# Altium footprint library YaoPCB.PCBLIB: 415 footprints (part 1 of 26)
Each footprint in its own frame and in the unit in brackets; x right, y up, seen from the top. Pads: shape width x height; smd on the part's side, far side on the other; paste and mask are expansions set on the pad; w line width, h text height; cw(c..) or ccw(c..) is an arc to the next point about the centre after c.
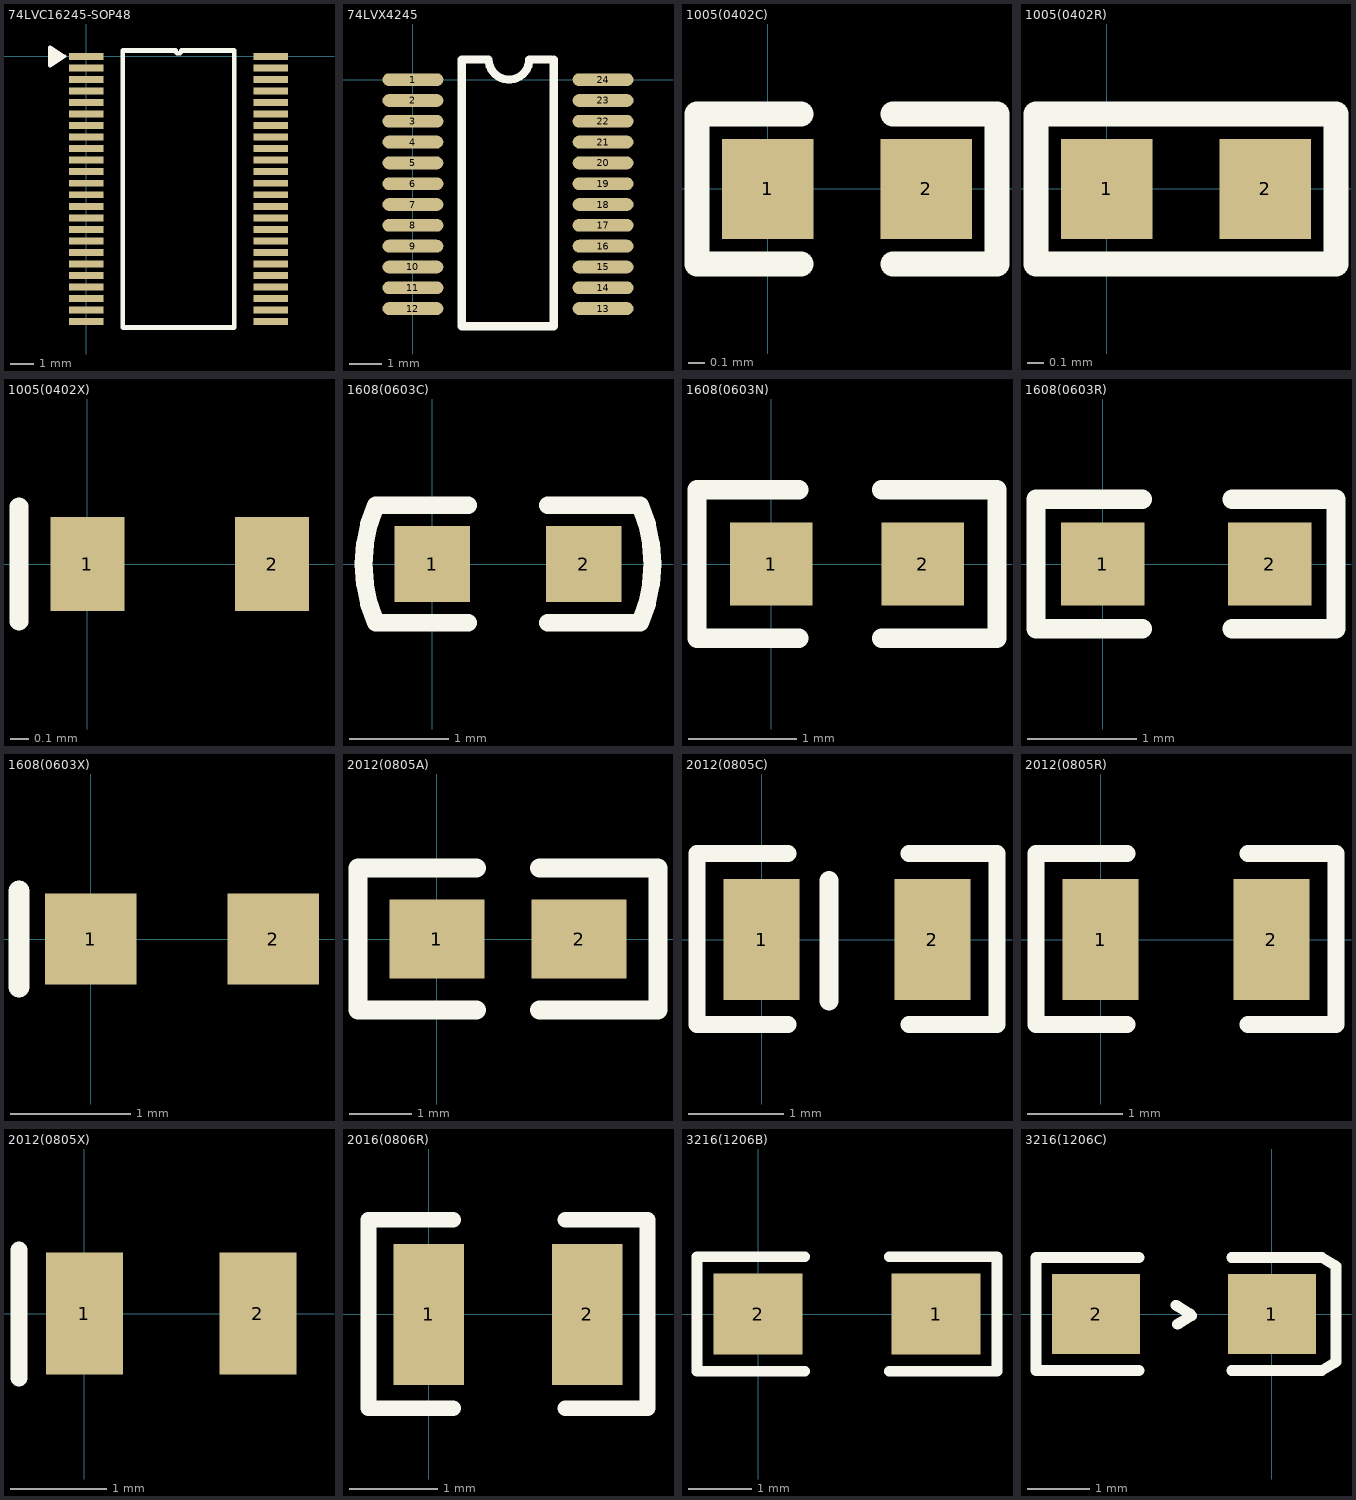
[diagram p0: the footprints below, top view; thin cyan lines are the x and y axes]

## 74LVC16245-SOP48 [mm]
pads (48):
  rect 1.5x0.3 smd: 1(0,0) 2(0,-0.5) 3(0,-1) 4(0,-1.5) 5(0,-2) 6(0,-2.5) 7(0,-3) 8(0,-3.5) 9(0,-4) 10(0,-4.5) 11(0,-5) 12(0,-5.5) 13(0,-6) 14(0,-6.5) 15(0,-7) 16(0,-7.5) 17(0,-8) 18(0,-8.5) 19(0,-9) 20(0,-9.5) 21(0,-10) 22(0,-10.5) 23(0,-11) 24(0,-11.5) 25(8,-11.5) 26(8,-11) 27(8,-10.5) 28(8,-10) 29(8,-9.5) 30(8,-9) 31(8,-8.5) 32(8,-8) 33(8,-7.5) 34(8,-7) 35(8,-6.5) 36(8,-6) 37(8,-5.5) 38(8,-5) 39(8,-4.5) 40(8,-4) 41(8,-3.5) 42(8,-3) 43(8,-2.5) 44(8,-2) 45(8,-1.5) 46(8,-1) 47(8,-0.5) 48(8,0)
TopOverlay:
  lines w0.152: -1.245,-0.007 -1.067,-0.007 ; -1.575,-0.414 -0.94,-0.007 -1.575,0.399 -1.575,-0.414
  lines w0.2: 1.585,-11.75 6.415,-11.75 6.415,0.25 4.125,0.25 cw(c4,0.25) 3.875,0.25 1.585,0.25 1.585,-11.75
  lines w0.254: -1.473,-0.211 -1.473,0.221 ; -1.295,-0.084 -1.295,0.094

## 74LVX4245 [mm]
pads (24):
  oval 1.9x0.4 smd: 1(0,0) 2(0,-0.65) 3(0,-1.3) 4(0,-1.95) 5(0,-2.6) 6(0,-3.25) 7(0,-3.9) 8(0,-4.55) 9(0,-5.2) 10(0,-5.85) 11(0,-6.5) 12(0,-7.15) 13(5.94,-7.15) 14(5.94,-6.5) 15(5.94,-5.85) 16(5.94,-5.2) 17(5.94,-4.55) 18(5.94,-3.9) 19(5.94,-3.25) 20(5.94,-2.6) 21(5.94,-1.95) 22(5.94,-1.3) 23(5.94,-0.65) 24(5.94,0)
TopOverlay:
  lines w0.254: 2.3,0.635 1.524,0.635 1.524,-7.7 4.4,-7.7 4.4,0.635 ; 2.365,0.635 ccw(c3,0.635) 3.635,0.635 ; 3.7,0.635 4.3,0.635

## 1005(0402C) [mil]
pads (2):
  rect 22x24 smd: 1(0,0) 2(38,0)
TopOverlay:
  lines w6: 8,-18 -17,-18 -17,18 8,18 ; 30,-18 55,-18 55,18 30,18

## 1005(0402R) [mil]
pads (2):
  rect 22x24 smd: 1(0,0) 2(38,0)
TopOverlay:
  lines w6: -17,-18 -17,18 55,18 55,-18 -17,-18

## 1005(0402X) [mm]
pads (2):
  rect 0.4x0.508 smd: 1(0,0) 2(1,0)
TopOverlay:
  lines w0.102: -0.37,-0.31 -0.37,0.31

## 1608(0603C) [mil]
pads (2):
  rect 30x30 smd: 1(0,0) 2(60,0)
TopOverlay:
  lines w7: 14.22,-23.23 -22.33,-23.23 cw(c31.1,0) -22.33,23.23 14.22,23.23 ; 45.78,-23.23 82.33,-23.23 ccw(c28.9,0) 82.33,23.23 45.78,23.23

## 1608(0603N) [mil]
pads (2):
  rect 30x30 smd: 1(0,0) 2(55,0)
TopOverlay:
  lines w7: 10,-27 -27,-27 -27,27 10,27 ; 40,-27 82,-27 82,27 40,27

## 1608(0603R) [mil]
pads (2):
  rect 30x30 smd: 1(0,0) 2(60,0)
TopOverlay:
  lines w7: 14.22,-23.23 -24.02,-23.23 -24.02,23.23 14.22,23.23 ; 46.46,-23.23 83.86,-23.23 83.86,23.23 46.46,23.23

## 1608(0603X) [mil]
pads (2):
  rect 30x30 smd: 1(0,0) 2(60,0)
TopOverlay:
  lines w7: -23.62,-15.75 -23.62,15.75

## 2012(0805A) [mil]
pads (2):
  rect 60x50 smd: 1(0,0) 2(90,0)
TopOverlay:
  lines w12: 25,-45 -50,-45 -50,45 25,45 ; 65,-45 140,-45 140,45 65,45

## 2012(0805C) [mm]
pads (2):
  rect 0.8x1.27 smd: 1(0,0) 2(1.8,0)
TopOverlay:
  lines w0.178: 0.28,-0.896 -0.68,-0.896 -0.68,0.907 0.28,0.907 ; 1.55,-0.896 2.48,-0.896 2.48,0.907 1.55,0.907
  lines w0.2: 0.71,-0.65 0.71,0.62

## 2012(0805R) [mm]
pads (2):
  rect 0.8x1.27 smd: 1(0,0) 2(1.8,0)
TopOverlay:
  lines w0.178: 0.28,-0.896 -0.68,-0.896 -0.68,0.907 0.28,0.907 ; 1.55,-0.896 2.48,-0.896 2.48,0.907 1.55,0.907

## 2012(0805X) [mm]
pads (2):
  rect 0.8x1.27 smd: 1(0,0) 2(1.8,0)
TopOverlay:
  lines w0.178: -0.68,-0.67 -0.68,0.66

## 2016(0806R) [mm]
pads (2):
  rect 0.8x1.6 smd: 1(0,0) 2(1.8,0)
TopOverlay:
  lines w0.178: 0.28,-1.061 -0.68,-1.061 -0.68,1.072 0.28,1.072 ; 1.55,-1.061 2.48,-1.061 2.48,1.072 1.55,1.072

## 3216(1206B) [mm]
pads (2):
  rect 1.4x1.27 smd: 1(2.8,0) 2(0,0)
TopOverlay:
  lines w0.17: 0.735,-0.9 -0.96,-0.9 -0.96,0.9 0.735,0.9 ; 2.063,-0.9 3.758,-0.9 3.758,0.9 2.063,0.9

## 3216(1206C) [mm]
pads (2):
  rect 1.4x1.27 smd: 1(0.006,0) 2(-2.794,0)
TopOverlay:
  lines w0.17: -2.109,-0.9 -3.75,-0.9 -3.75,0.9 -2.109,0.9 ; -1.522,0.138 -1.295,0 ; -1.497,-0.163 -1.27,-0.025 ; -0.635,-0.9 0.8,-0.9 1.027,-0.762 1.027,0.762 0.8,0.9 -0.635,0.9